# EAGLE library part 16DP- (library Chips)
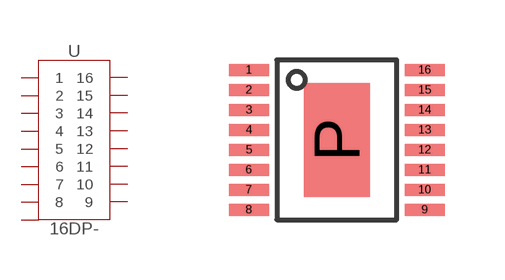
[diagram p20: symbol with the pads of 16MSOP+P_3.0MM; footprint 16MSOP+P_3.0MM]

Designator prefix -

## 16DP-16MSOP_3.0MM  [16MSOP+P_3.0MM]
1  1
2  2
3  3
4  4
5  5
6  6
7  7
8  8
9  9
10  10
11  11
12  12
13  13
14  14
15  15
16  16
P  P

## Footprint 16MSOP+P_3.0MM (pad centres in mm)
smd 1 x 0.3: 1 -2.2,1.75; 2 -2.2,1.25; 3 -2.2,0.75; 4 -2.2,0.25; 5 -2.2,-0.25; 6 -2.2,-0.75; 7 -2.2,-1.25; 8 -2.2,-1.75; 9 2.2,-1.75; 10 2.2,-1.25; 11 2.2,-0.75; 12 2.2,-0.25; 13 2.2,0.25; 14 2.2,0.75; 15 2.2,1.25; 16 2.2,1.75
smd 1.65 x 2.85: P 0,0